# Altium footprint library connectors.PcbLib: 68 footprints (part 2 of 5)
Each footprint in its own frame and in the unit in brackets; x right, y up, seen from the top. Pads: shape width x height; smd on the part's side, far side on the other; paste and mask are expansions set on the pad; w line width, h text height; cw(c..) or ccw(c..) is an arc to the next point about the centre after c.
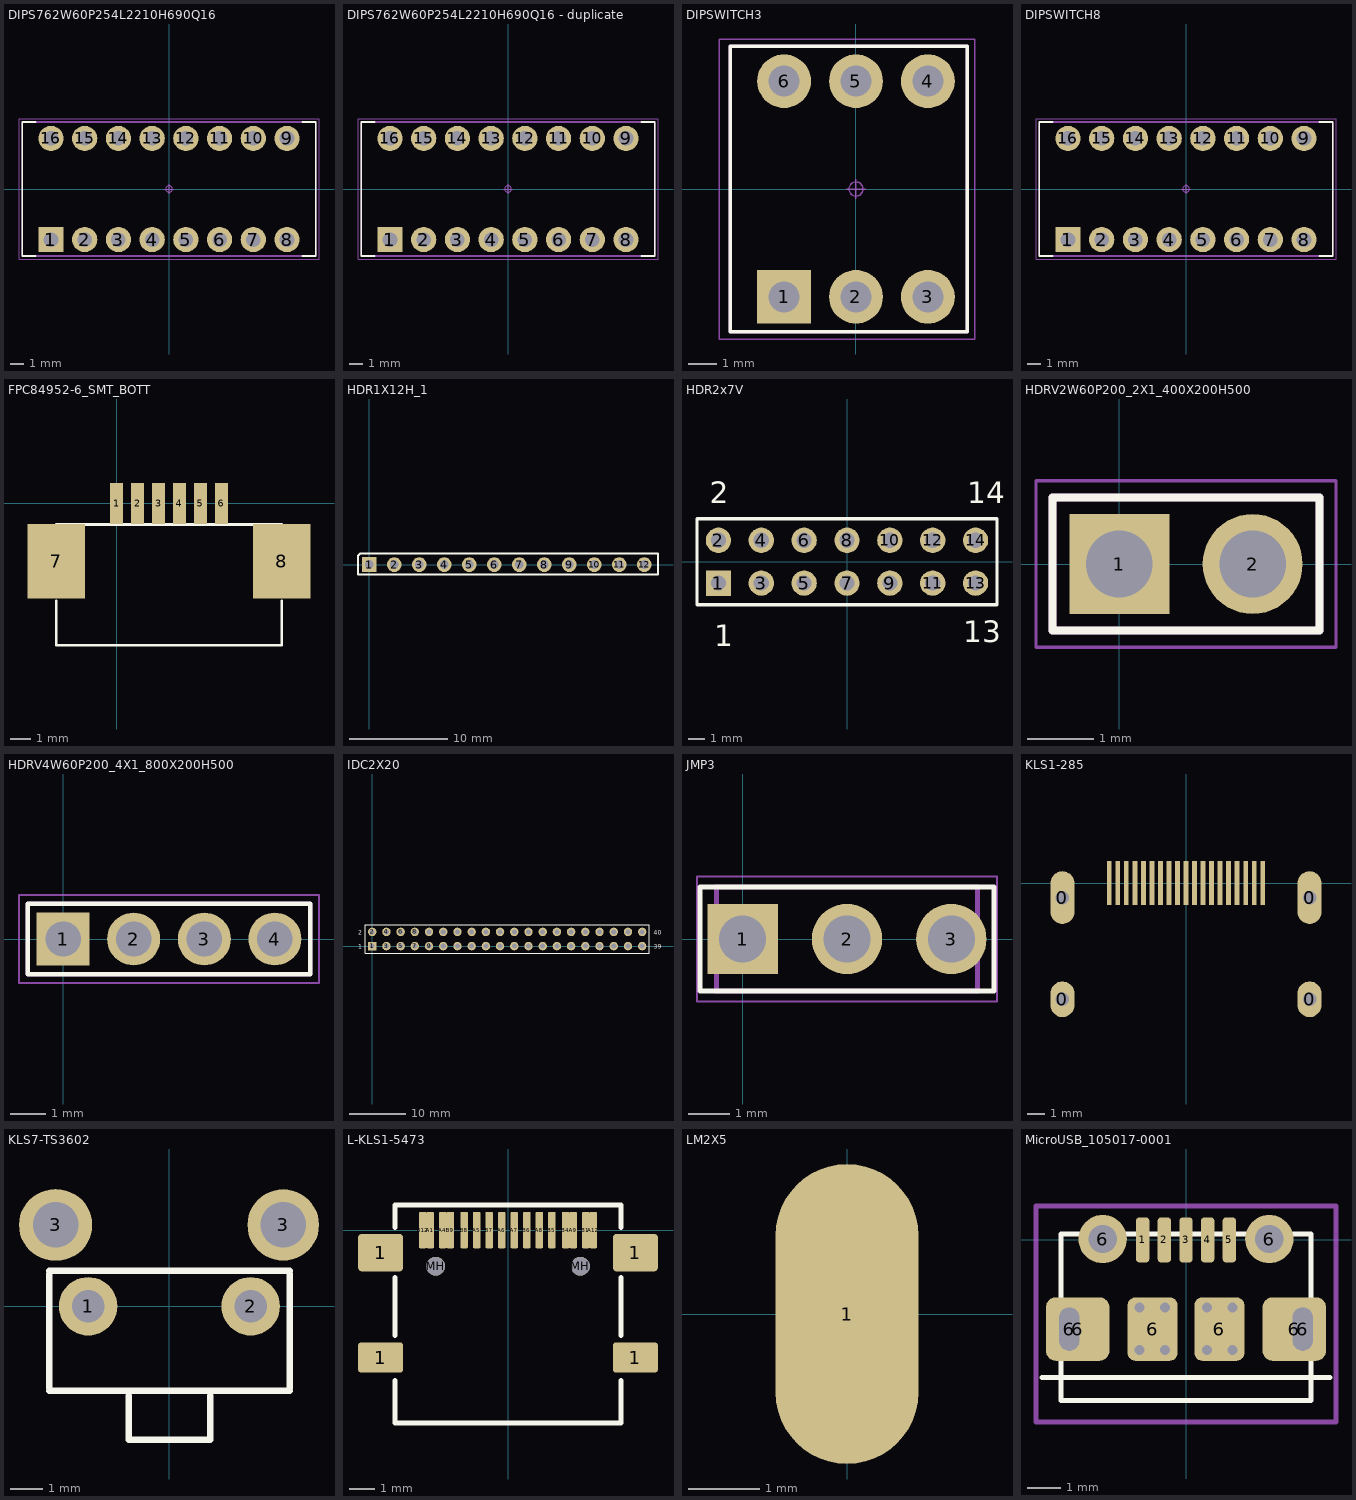
[diagram p1: the footprints below, top view; thin cyan lines are the x and y axes]

## DIPS762W60P254L2210H690Q16 [mm] "DIPS, 7.62 mm lead span, 2.54 mm pitch; 16 pin, 22.10 mm L X 10.10 mm W X 6.90 mm H body"
height 6.9
pads (16):
  rect 1.9x1.9 / inner round 1.71 / far side rect 1.71x1.71 hole 1.1 paste-2539.97: 1(-8.89,-3.81)
  round 1.9 / inner round 1.71 / far side round 1.71 hole 1.1 paste-2539.97: 2(-6.35,-3.81) 3(-3.81,-3.81) 4(-1.27,-3.81) 5(1.27,-3.81) 6(3.81,-3.81) 7(6.35,-3.81) 8(8.89,-3.81) 9(8.89,3.81) 10(6.35,3.81) 11(3.81,3.81) 12(1.27,3.81) 13(-1.27,3.81) 14(-3.81,3.81) 15(-6.35,3.81) 16(-8.89,3.81)
Top Overlay:
  lines w0.12: -10.03,-5.05 -11.05,-5.05 -11.05,5.05 -10.03,5.05 ; 10.03,-5.05 11.05,-5.05 11.05,5.05 10.03,5.05
Mechanical 11:
  lines w0.12: -11.05,-5.05 11.05,-5.05 11.05,5.05 -11.05,5.05 -11.05,-5.05
Mechanical 12:
  lines w0.025: -11.05,-5.05 11.05,-5.05 11.05,5.05 -11.05,5.05 -11.05,-5.05 ; -9.24,-4.16 -9.24,-3.46 -8.54,-3.46 -8.54,-4.16 -9.24,-4.16 ; -9.24,3.46 -9.24,4.16 -8.54,4.16 -8.54,3.46 -9.24,3.46 ; -6.7,-4.16 -6.7,-3.46 -6,-3.46 -6,-4.16 -6.7,-4.16 ; -6.7,3.46 -6.7,4.16 -6,4.16 -6,3.46 -6.7,3.46 ; -4.16,-4.16 -4.16,-3.46 -3.46,-3.46 -3.46,-4.16 -4.16,-4.16 ; -4.16,3.46 -4.16,4.16 -3.46,4.16 -3.46,3.46 -4.16,3.46 ; -1.62,-4.16 -1.62,-3.46 -0.92,-3.46 -0.92,-4.16 -1.62,-4.16 ; -1.62,3.46 -1.62,4.16 -0.92,4.16 -0.92,3.46 -1.62,3.46 ; 0.92,-4.16 0.92,-3.46 1.62,-3.46 1.62,-4.16 0.92,-4.16 ; 0.92,3.46 0.92,4.16 1.62,4.16 1.62,3.46 0.92,3.46 ; 3.46,-4.16 3.46,-3.46 4.16,-3.46 4.16,-4.16 3.46,-4.16 ; 3.46,3.46 3.46,4.16 4.16,4.16 4.16,3.46 3.46,3.46 ; 6,-4.16 6,-3.46 6.7,-3.46 6.7,-4.16 6,-4.16 ; 6,3.46 6,4.16 6.7,4.16 6.7,3.46 6,3.46 ; 8.54,-4.16 8.54,-3.46 9.24,-3.46 9.24,-4.16 8.54,-4.16 ; 8.54,3.46 8.54,4.16 9.24,4.16 9.24,3.46 8.54,3.46
Mechanical 15:
  circle w0.05: c0,0 r0.25
  lines w0.05: -0.35,0 0.35,0 ; 0,-0.35 0,0.35 ; -11.3,-5.3 11.3,-5.3 11.3,5.3 -11.3,5.3 -11.3,-5.3
Mechanical 16:
  text ".Designator" at 0,0 h1.2
3D body "DIPS762W60P254L2210H690Q16.STEP": height 6.9, standoff -2, extent -11.05,-5.05 11.05,5.05

## DIPS762W60P254L2210H690Q16 - duplicate [mm] "DIPS, 7.62 mm lead span, 2.54 mm pitch; 16 pin, 22.10 mm L X 10.10 mm W X 6.90 mm H body"
height 6.9
pads (16):
  rect 1.9x1.9 / inner round 1.71 / far side rect 1.71x1.71 hole 1.1 paste-2539.97: 1(-8.89,-3.81)
  round 1.9 / inner round 1.71 / far side round 1.71 hole 1.1 paste-2539.97: 2(-6.35,-3.81) 3(-3.81,-3.81) 4(-1.27,-3.81) 5(1.27,-3.81) 6(3.81,-3.81) 7(6.35,-3.81) 8(8.89,-3.81) 9(8.89,3.81) 10(6.35,3.81) 11(3.81,3.81) 12(1.27,3.81) 13(-1.27,3.81) 14(-3.81,3.81) 15(-6.35,3.81) 16(-8.89,3.81)
Top Overlay:
  lines w0.12: -10.03,-5.05 -11.05,-5.05 -11.05,5.05 -10.03,5.05 ; 10.03,-5.05 11.05,-5.05 11.05,5.05 10.03,5.05
Mechanical 11:
  lines w0.12: -11.05,-5.05 -11.05,5.05 11.05,5.05 11.05,-5.05 -11.05,-5.05
Mechanical 12:
  lines w0.025: -11.05,-5.05 -11.05,5.05 11.05,5.05 11.05,-5.05 -11.05,-5.05 ; -9.24,-4.16 -8.54,-4.16 -8.54,-3.46 -9.24,-3.46 -9.24,-4.16 ; -9.24,3.46 -8.54,3.46 -8.54,4.16 -9.24,4.16 -9.24,3.46 ; -6.7,-4.16 -6,-4.16 -6,-3.46 -6.7,-3.46 -6.7,-4.16 ; -6.7,3.46 -6,3.46 -6,4.16 -6.7,4.16 -6.7,3.46 ; -4.16,-4.16 -3.46,-4.16 -3.46,-3.46 -4.16,-3.46 -4.16,-4.16 ; -4.16,3.46 -3.46,3.46 -3.46,4.16 -4.16,4.16 -4.16,3.46 ; -1.62,-4.16 -0.92,-4.16 -0.92,-3.46 -1.62,-3.46 -1.62,-4.16 ; -1.62,3.46 -0.92,3.46 -0.92,4.16 -1.62,4.16 -1.62,3.46 ; 0.92,-4.16 1.62,-4.16 1.62,-3.46 0.92,-3.46 0.92,-4.16 ; 0.92,3.46 1.62,3.46 1.62,4.16 0.92,4.16 0.92,3.46 ; 3.46,-4.16 4.16,-4.16 4.16,-3.46 3.46,-3.46 3.46,-4.16 ; 3.46,3.46 4.16,3.46 4.16,4.16 3.46,4.16 3.46,3.46 ; 6,-4.16 6.7,-4.16 6.7,-3.46 6,-3.46 6,-4.16 ; 6,3.46 6.7,3.46 6.7,4.16 6,4.16 6,3.46 ; 8.54,-4.16 9.24,-4.16 9.24,-3.46 8.54,-3.46 8.54,-4.16 ; 8.54,3.46 9.24,3.46 9.24,4.16 8.54,4.16 8.54,3.46
Mechanical 15:
  circle w0.05: c0,0 r0.25
  lines w0.05: -0.35,0 0.35,0 ; 0,-0.35 0,0.35 ; -11.3,-5.3 -11.3,5.3 11.3,5.3 11.3,-5.3 -11.3,-5.3
Mechanical 16:
  text ".Designator" at 0,0 h1.2
3D body "DIPS762W60P254L2210H690Q16.STEP": height 6.9, standoff -2, extent -11.05,-5.05 11.05,5.05

## DIPSWITCH3 [mm]
height 6.9
pads (6):
  rect 1.9x1.9 / inner round 1.71 / far side round 1.71 hole 1.1 paste-2539.97: 1(-2.54,-3.81)
  round 1.9 / inner round 1.71 / far side round 1.71 hole 1.1 paste-2539.97: 2(0,-3.81) 3(2.54,-3.81) 4(2.54,3.81) 5(0,3.81) 6(-2.54,3.81)
Top Overlay:
  lines w0.12: -4.445,-5.05 3.937,-5.05 3.937,5.05 -4.445,5.05 -4.445,-5.05
Mechanical 11:
  lines w0.12: -4.445,-5.05 -4.445,5.05 3.937,5.05 3.937,-5.05 -4.445,-5.05
Mechanical 15:
  circle w0.05: c0,0 r0.25
  lines w0.05: -0.35,0 0.35,0 ; 0,-0.35 0,0.35 ; -4.826,-5.3 -4.826,5.3 4.191,5.3 4.191,-5.3 -4.826,-5.3
Mechanical 16:
  text ".Designator" at 0,0 h1.2
3D body "DIP Switch x03 Red.stp": height 6.85, standoff -3.4, extent -4.31,-4.95 4.31,4.95

## DIPSWITCH8 [mm] "DIPS, 7.62 mm lead span, 2.54 mm pitch; 16 pin, 22.10 mm L X 10.10 mm W X 6.90 mm H body"
height 6.9
pads (16):
  rect 1.9x1.9 / inner round 1.71 / far side rect 1.71x1.71 hole 1.1 paste-2539.97: 1(-8.89,-3.81)
  round 1.9 / inner round 1.71 / far side round 1.71 hole 1.1 paste-2539.97: 2(-6.35,-3.81) 3(-3.81,-3.81) 4(-1.27,-3.81) 5(1.27,-3.81) 6(3.81,-3.81) 7(6.35,-3.81) 8(8.89,-3.81) 9(8.89,3.81) 10(6.35,3.81) 11(3.81,3.81) 12(1.27,3.81) 13(-1.27,3.81) 14(-3.81,3.81) 15(-6.35,3.81) 16(-8.89,3.81)
Top Overlay:
  lines w0.12: -10.03,-5.05 -11.05,-5.05 -11.05,5.05 -10.03,5.05 ; 10.03,-5.05 11.05,-5.05 11.05,5.05 10.03,5.05
Mechanical 11:
  lines w0.12: -11.05,-5.05 -11.05,5.05 11.05,5.05 11.05,-5.05 -11.05,-5.05
Mechanical 12:
  lines w0.025: -11.05,-5.05 -11.05,5.05 11.05,5.05 11.05,-5.05 -11.05,-5.05 ; -9.24,-4.16 -8.54,-4.16 -8.54,-3.46 -9.24,-3.46 -9.24,-4.16 ; -9.24,3.46 -8.54,3.46 -8.54,4.16 -9.24,4.16 -9.24,3.46 ; -6.7,-4.16 -6,-4.16 -6,-3.46 -6.7,-3.46 -6.7,-4.16 ; -6.7,3.46 -6,3.46 -6,4.16 -6.7,4.16 -6.7,3.46 ; -4.16,-4.16 -3.46,-4.16 -3.46,-3.46 -4.16,-3.46 -4.16,-4.16 ; -4.16,3.46 -3.46,3.46 -3.46,4.16 -4.16,4.16 -4.16,3.46 ; -1.62,-4.16 -0.92,-4.16 -0.92,-3.46 -1.62,-3.46 -1.62,-4.16 ; -1.62,3.46 -0.92,3.46 -0.92,4.16 -1.62,4.16 -1.62,3.46 ; 0.92,-4.16 1.62,-4.16 1.62,-3.46 0.92,-3.46 0.92,-4.16 ; 0.92,3.46 1.62,3.46 1.62,4.16 0.92,4.16 0.92,3.46 ; 3.46,-4.16 4.16,-4.16 4.16,-3.46 3.46,-3.46 3.46,-4.16 ; 3.46,3.46 4.16,3.46 4.16,4.16 3.46,4.16 3.46,3.46 ; 6,-4.16 6.7,-4.16 6.7,-3.46 6,-3.46 6,-4.16 ; 6,3.46 6.7,3.46 6.7,4.16 6,4.16 6,3.46 ; 8.54,-4.16 9.24,-4.16 9.24,-3.46 8.54,-3.46 8.54,-4.16 ; 8.54,3.46 9.24,3.46 9.24,4.16 8.54,4.16 8.54,3.46
Mechanical 15:
  circle w0.05: c0,0 r0.25
  lines w0.05: -0.35,0 0.35,0 ; 0,-0.35 0,0.35 ; -11.3,-5.3 -11.3,5.3 11.3,5.3 11.3,-5.3 -11.3,-5.3
Mechanical 16:
  text ".Designator" at 0,0 h1.2
3D body "Grayhill_78B08T.stp": height 8.02, standoff -3.43, extent -11.2,-4.95 11.2,4.95

## FPC84952-6_SMT_BOTT [mm]
pads (8):
  rect 0.61x2 smd: 1(0,0) 2(1.016,0) 3(2.032,0) 4(3.048,0) 5(4.064,0) 6(5.08,0)
  rect 2.8x3.6 smd: 7(-2.921,-2.794) 8(8.001,-2.794)
Top Overlay:
  lines w0.127: -2.921,-4.699 -2.921,-6.858 8.001,-6.858 8.001,-4.699 ; -2.921,-1.016 8.001,-1.016
3D body "13m5785_84952-6.stp": height 2.51, standoff -0.05, extent -4.425,-6.43 9.505,0.11

## HDR1X12H_1 [mm] "Connector; Header; 12 Position; Right Angle"
pads (12):
  rect 1.5x1.5 hole 0.9: 1(0,0)
  round 1.5 hole 0.9: 2(2.54,0) 3(5.08,0) 4(7.62,0) 5(10.16,0) 6(12.7,0) 7(15.24,0) 8(17.78,0) 9(20.32,0) 10(22.86,0) 11(25.4,0) 12(27.94,0)
Top Overlay:
  lines w0.2: -1.143,-1.016 -1.143,0.889 -0.889,1.143 29.337,1.143 29.337,-1.016 -1.143,-1.016
3D body "PinHeader_1x12_P2.54mm_Horizontal.step": height 2.54, standoff -3, extent -1.27,-10.04 29.21,0.32

## HDR2x7V [mm]
pads (14):
  rect 1.5x1.5 hole 0.9: 1(-7.62,-1.27)
  round 1.5 hole 0.9: 2(-7.62,1.27) 3(-5.08,-1.27) 4(-5.08,1.27) 5(-2.54,-1.27) 6(-2.54,1.27) 7(0,-1.27) 8(0,1.27) 9(2.54,-1.27) 10(2.54,1.27) 11(5.08,-1.27) 12(5.08,1.27) 13(7.62,-1.27) 14(7.62,1.27)
Top Overlay:
  lines w0.2: -8.89,-2.54 8.89,-2.54 8.89,2.54 -8.89,2.54 -8.89,-2.54
  text "13" at 6.88,-4.77 h1.27
  text "14" at 7.13,3.48 h1.27
  text "1" at -7.87,-5.02 h1.27
  text "2" at -8.12,3.48 h1.27
3D body "DS1021-2x7SF11.stp": height 8.6, standoff -3, extent -8.89,-2.5 8.89,2.5

## HDRV2W60P200_2X1_400X200H500 [mm] "Header, Vertical, 2.00 mm pitch; 0.60 mm lead width, 2 pins, 1 row, 2 pins per row, 4.00 mm L X 2.00 mm W X 5.00 mm H body"
height 5
pads (2):
  rect 1.5x1.5 hole 1 paste-2539.97: 1(0,0)
  round 1.5 hole 1 paste-2539.97: 2(2,0)
Top Overlay:
  lines w0.12: -1,-1 3,-1 3,1 -1,1 -1,-1
Mechanical 11:
  lines w0.12: -1,-1 3,-1 3,1 -1,1 -1,-1
Mechanical 12:
  lines w0.025: -1,-1 3,-1 3,1 -1,1 -1,-1 ; -0.3,-0.3 0.3,-0.3 0.3,0.3 -0.3,0.3 -0.3,-0.3 ; 1.7,-0.3 2.3,-0.3 2.3,0.3 1.7,0.3 1.7,-0.3
Mechanical 15:
  circle w0.05: c0,0 r0.25
  lines w0.05: -0.35,0 0.35,0 ; 0,-0.35 0,0.35 ; -1.25,-1.25 3.25,-1.25 3.25,1.25 -1.25,1.25 -1.25,-1.25
3D body "HDRV2W60P200_2X1_400X200H500.STEP": height 5, standoff -2.3, extent -1,-1 3,1

## HDRV4W60P200_4X1_800X200H500 [mm] "Header, Vertical, 2.00 mm pitch; 0.60 mm lead width, 4 pins, 1 row, 4 pins per row, 8.00 mm L X 2.00 mm W X 5.00 mm H body"
height 5
pads (4):
  rect 1.5x1.5 hole 1 paste-2539.97: 1(0,0)
  round 1.5 hole 1 paste-2539.97: 2(2,0) 3(4,0) 4(6,0)
Top Overlay:
  lines w0.12: -1,-1 7,-1 7,1 -1,1 -1,-1
Mechanical 11:
  lines w0.12: -1,-1 7,-1 7,1 -1,1 -1,-1
Mechanical 12:
  lines w0.025: -1,-1 7,-1 7,1 -1,1 -1,-1 ; -0.3,-0.3 0.3,-0.3 0.3,0.3 -0.3,0.3 -0.3,-0.3 ; 1.7,-0.3 2.3,-0.3 2.3,0.3 1.7,0.3 1.7,-0.3 ; 3.7,-0.3 4.3,-0.3 4.3,0.3 3.7,0.3 3.7,-0.3 ; 5.7,-0.3 6.3,-0.3 6.3,0.3 5.7,0.3 5.7,-0.3
Mechanical 15:
  circle w0.05: c0,0 r0.25
  lines w0.05: -0.35,0 0.35,0 ; 0,-0.35 0,0.35 ; -1.25,-1.25 7.25,-1.25 7.25,1.25 -1.25,1.25 -1.25,-1.25
Mechanical 16:
  text ".Designator" at 0,0 h1.2
3D body "HDRV4W60P200_4X1_800X200H500.STEP": height 5, standoff -2.3, extent -1,-1 7,1

## IDC2X20 [mm] "Connector; Header; 20x2 Position"
height 2.38
pads (40):
  rect 1.5x1.5 hole 0.9: 1(0,0)
  round 1.5 hole 0.9: 2(0,2.54) 3(2.54,0) 4(2.54,2.54) 5(5.08,0) 6(5.08,2.54) 7(7.62,0) 8(7.62,2.54) 9(10.16,0) 10(10.16,2.54) 11(12.7,0) 12(12.7,2.54) 13(15.24,0) 14(15.24,2.54) 15(17.78,0) 16(17.78,2.54) 17(20.32,0) 18(20.32,2.54) 19(22.86,0) 20(22.86,2.54) 21(25.4,0) 22(25.4,2.54) 23(27.94,0) 24(27.94,2.54) 25(30.48,0) 26(30.48,2.54) 27(33.02,0) 28(33.02,2.54) 29(35.56,0) 30(35.56,2.54) 31(38.1,0) 32(38.1,2.54) 33(40.64,0) 34(40.64,2.54) 35(43.18,0) 36(43.18,2.54) 37(45.72,0) 38(45.72,2.54) 39(48.26,0) 40(48.26,2.54)
Top Overlay:
  lines w0.2: -1.27,-1.27 49.53,-1.27 49.53,3.81 -1.27,3.81 -1.27,-1.27
  text "1" at -2.54,-0.508 h0.8
  text "2" at -2.54,2.032 h0.8
  text "40" at 50.292,2.032 h0.8
  text "39" at 50.292,-0.508 h0.8
3D body "DS1013-40S (IDC-40MS CONNFLY).step": height 9, standoff -3.6, extent -5.17,-3.23 53.43,5.67

## JMP3 [mm] "Header, Vertical, 2.54 mm pitch; 0.70 mm lead width, 3 pins, 1 row, 3 pins per row, 6.35 mm L X 2.54 mm W X 7.54 mm H body"
height 7.54
pads (3):
  rect 1.71x1.71 hole 1.14 paste-2539.97: 1(0,0)
  round 1.71 hole 1.14 paste-2539.97: 2(2.54,0) 3(5.08,0)
Top Overlay:
  lines w0.12: -1.04,-1.27 -1.04,1.27 6.12,1.27 6.12,-1.27 -1.04,-1.27
Mechanical 11:
  lines w0.12: -0.64,-1.27 -0.64,1.27 5.72,1.27 5.72,-1.27 -0.64,-1.27
Mechanical 12:
  lines w0.025: -0.635,-1.27 -0.635,1.27 5.715,1.27 5.715,-1.27 -0.635,-1.27 ; -0.35,-0.35 -0.35,0.35 0.35,0.35 0.35,-0.35 -0.35,-0.35 ; 2.19,-0.35 2.19,0.35 2.89,0.35 2.89,-0.35 2.19,-0.35 ; 4.73,-0.35 4.73,0.35 5.43,0.35 5.43,-0.35 4.73,-0.35
Mechanical 15:
  circle w0.05: c0,0 r0.25
  lines w0.05: -0.35,0 0.35,0 ; 0,-0.35 0,0.35 ; -1.11,-1.52 -1.11,1.52 6.19,1.52 6.19,-1.52 -1.11,-1.52
3D body "pin header 1x3 and jumper.stp": height 9, standoff -2.99, extent -1.27,-1.27 6.35,1.27

## KLS1-285 [mm] "HDMI PCB connector"
pads (23):
  oval 1.4x2.1 hole 0.8: 0(-7.25,-6.82) 0(7.25,-6.82)
  oval 1.4x3.1 hole 0.8: 0(-7.25,-0.86) 0(7.25,-0.86)
  rect 0.28x2.6 smd: 1(4.5,0) 2(4,0) 3(3.5,0) 4(3,0) 5(2.5,0) 6(2,0) 7(1.5,0) 8(1,0) 9(0.5,0) 10(0,0) 11(-0.5,0) 12(-1,0) 13(-1.5,0) 14(-2,0) 15(-2.5,0) 16(-3,0) 17(-3.5,0) 18(-4,0) 19(-4.5,0)
3D body "molex_0471510001.STEP": height 6.23, standoff -2.15, extent -7.5,-11.5 7.5,0.65

## KLS7-TS3602 [mm] "miniature switch"
pads (4):
  round 1.8 hole 1: 1(-2.5,0) 2(2.5,0)
  oval 2.25x2.2 hole 1.4: 3(-3.5,2.5)
  round 2.2 hole 1.4: 3(3.5,2.5)
Top Overlay:
  lines w0.2: -3.7,-2.6 3.7,-2.6 ; -3.7,-2.5 -3.7,1 ; -3.7,1.1 3.7,1.1 ; -1.25,-2.75 -1.25,-4.1 1.25,-4.1 1.25,-2.75 ; 3.7,-2.5 3.7,1
3D body "KLS7-TS3602.STEP": height 4.4, standoff -1.4, extent -3.7,-3.975 3.6,3.75

## L-KLS1-5473 [mm] "USB 3.1 Type C"
pads (22):
  rrect20% 1.8x1.2 smd mask+0.07: 1(-5.08,-5.08) 1(5.08,-5.08)
  rrect20% 1.8x1.5 smd mask+0.07: 1(-5.08,-0.9) 1(5.08,-0.9)
  rrect30% 0.3x1.45 smd paste-2 mask+0.07: A1(-3.1,0) A4(-2.6,0) A9(2.6,0) A12(3.4,0) B1(3.1,0) B4(2.3,0) B9(-2.3,0) B12(-3.4,0)
  rrect30% 0.3x1.45 smd mask+0.07: A5(-1.25,0) A6(-0.25,0) A7(0.25,0) A8(1.25,0) B5(1.75,0) B6(0.75,0) B7(-0.75,0) B8(-1.75,0)
  round 0.75 hole 0.75 unplated paste-2539.97 mask+0.07: MH(-2.885,-1.44) MH(2.885,-1.44)
Top Overlay:
  lines w0.2: -4.5,-6 -4.5,-7.69 4.5,-7.69 4.5,-6 ; -4.5,-4.2 -4.5,-1.9 ; -4.5,0.1 -4.5,1 4.5,1 4.5,0.1 ; 4.5,-4.2 4.5,-1.9
Top Paste:
  region: -3.5,0.725 -3,0.725 -2.99,0.725 -2.972,0.717 -2.958,0.703 -2.95,0.685 -2.95,0.675 -2.95,-0.675 -2.95,-0.685 -2.958,-0.703 -2.972,-0.717 -2.99,-0.725 -3,-0.725 -3.5,-0.725 -3.51,-0.725 -3.528,-0.717 -3.542,-0.703 -3.55,-0.685 -3.55,-0.675 -3.55,0.675 -3.55,0.685 -3.542,0.703 -3.528,0.717 -3.51,0.725
  region: -2.7,0.725 -2.2,0.725 -2.19,0.725 -2.172,0.717 -2.158,0.703 -2.15,0.685 -2.15,0.675 -2.15,-0.675 -2.15,-0.685 -2.158,-0.703 -2.172,-0.717 -2.19,-0.725 -2.2,-0.725 -2.7,-0.725 -2.71,-0.725 -2.728,-0.717 -2.742,-0.703 -2.75,-0.685 -2.75,-0.675 -2.75,0.675 -2.75,0.685 -2.742,0.703 -2.728,0.717 -2.71,0.725
  region: 3,0.725 3.5,0.725 3.51,0.725 3.528,0.717 3.542,0.703 3.55,0.685 3.55,0.675 3.55,-0.675 3.55,-0.685 3.542,-0.703 3.528,-0.717 3.51,-0.725 3.5,-0.725 3,-0.725 2.99,-0.725 2.972,-0.717 2.958,-0.703 2.95,-0.685 2.95,-0.675 2.95,0.675 2.95,0.685 2.958,0.703 2.972,0.717 2.99,0.725
  region: 2.2,0.725 2.7,0.725 2.71,0.725 2.728,0.717 2.742,0.703 2.75,0.685 2.75,0.675 2.75,-0.675 2.75,-0.685 2.742,-0.703 2.728,-0.717 2.71,-0.725 2.7,-0.725 2.2,-0.725 2.19,-0.725 2.172,-0.717 2.158,-0.703 2.15,-0.685 2.15,-0.675 2.15,0.675 2.15,0.685 2.158,0.703 2.172,0.717 2.19,0.725
3D body "USB Type C Port (SMD Type).STEP": height 3.2, standoff -1, extent -4.47,-7.7 4.47,0.2

## LM2X5 [mm]
pads (1):
  oval 2x4.2 smd mask+0.1: 1(0,0)

## MicroUSB_105017-0001 [mm]
height 2.35
pads (13):
  rrect50% 0.4x1.35 smd mask+0.075: 1(-1.3,0) 2(-0.65,0) 3(0,0) 4(0.65,0) 5(1.3,0)
  rrect30% 1.4x1.7 hole 0.6 slot 1.3 at 90 deg mask-0.1: 6(-3.5,-2.675) 6(3.5,-2.675)
  rrect30% 1.9x1.9 smd: 6(-3.25,-2.675) 6(3.25,-2.675)
  round 1.45 hole 0.85 mask-0.1: 6(-2.5,0.025) 6(2.5,0.025)
  rrect30% 1.5x1.9 smd: 6(-1,-2.675) 6(1,-2.675)
via 1.397,-2.032 diameter 0.6 hole 0.3
via 0.635,-2.032 diameter 0.6 hole 0.3
via -0.635,-2.032 diameter 0.6 hole 0.3
via -1.397,-2.032 diameter 0.6 hole 0.3
via -1.397,-3.302 diameter 0.6 hole 0.3
via -0.635,-3.302 diameter 0.6 hole 0.3
via 0.635,-3.302 diameter 0.6 hole 0.3
via 1.397,-3.302 diameter 0.6 hole 0.3
Top Overlay:
  lines w0.15: -4.318,-4.125 4.318,-4.125 ; -3.75,-4.825 -3.75,0.175 3.75,0.175 3.75,-4.825 -3.75,-4.825
Mechanical 15:
  lines w0.15: -4.5,-5.461 4.5,-5.461 4.5,1.016 -4.5,1.016 -4.5,-2.921 -4.5,-5.461